# EAGLE library part 7-SEGMENT--DIGITS (library 7-Segment-3Digits)
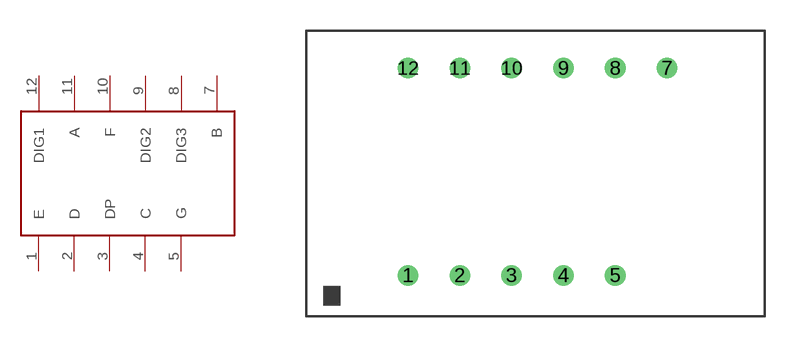
[diagram p0: symbol with the pads of 7-SEGMENT--DIGITS; footprint 7-SEGMENT--DIGITS]

Designator prefix -

## 7-SEGMENT--DIGITS  [7-SEGMENT--DIGITS]
1  E
2  D
3  DP
4  C
5  G
7  B
8  DIG3
9  DIG2
10  F
11  A
12  DIG1

## Footprint 7-SEGMENT--DIGITS (pad centres in mm)
drill 0.5: 1 0,0; 2 2.54,0; 3 5.08,0; 4 7.62,0; 5 10.16,0; 7 12.7,10.16; 8 10.16,10.16; 9 7.62,10.16; 10 5.08,10.16; 11 2.54,10.16; 12 0,10.16